# EAGLE library part DRV8871 (library customy)
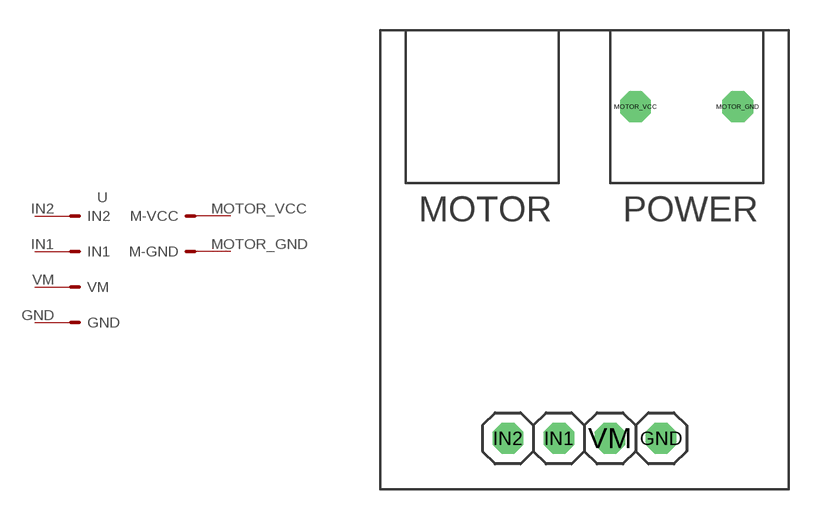
[diagram p4: symbol with the pads of DRIVER; footprint DRIVER]

Designator prefix -

## DRV8871  [DRIVER]
GND  GND
IN1  IN1
IN2  IN2
MOTOR_GND  M-GND
MOTOR_VCC  M-VCC
VM  VM

## Footprint DRIVER (pad centres in mm)
PIN HEADER
drill 1.016 octagon: GND 1.27,0; IN1 -3.81,0; IN2 -6.35,0; MOTOR_GND 5.08,16.51; MOTOR_VCC 0,16.51; VM -1.27,0